# EAGLE library part DIPSWITCH_4P (library CASE-Switches)
Standard 4 position DIP-Switch Description: Standard 4 position DIP-Switch in DIP/SIP and SMD package. Links: TE 1825360-1 <https://www.te.com/commerce/DocumentDelivery/DDEController?Action=showdoc&DocId=Customer+Drawing%7F1825360%7FB4%7Fpdf%7FEnglish%7FENG_CD_1825360_B4.pdf%7F1825360-1> TE EDS04SGRNTU04Q <http://www.farnell.com/datasheets/2367232.pdf?_ga=2.78644432.510093211.1546607516-411290609.1543318711>
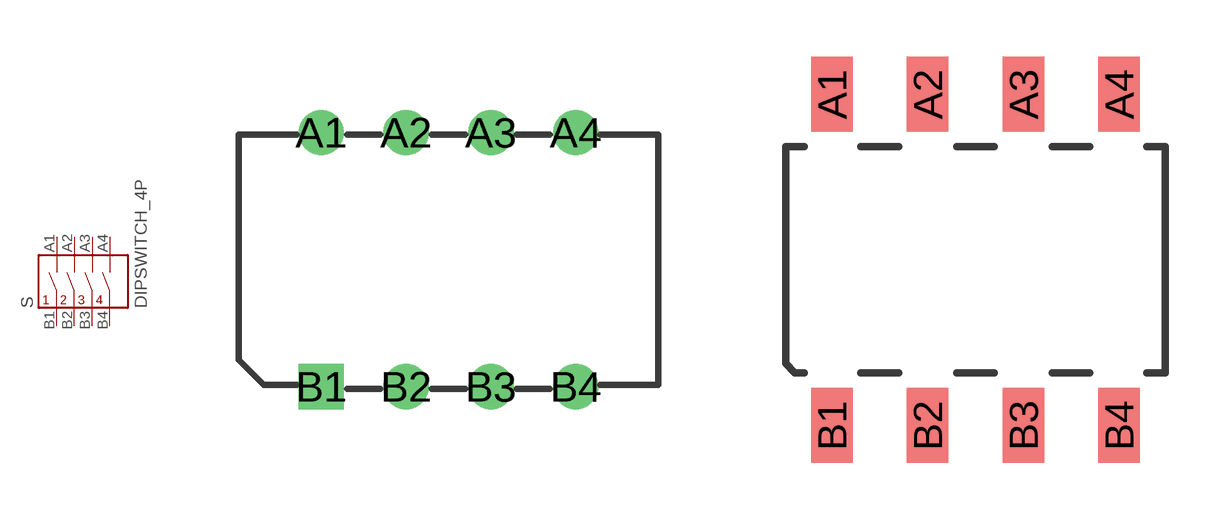
[diagram p0: symbol with the pads of DIPSWITCH_4P; footprints DIPSWITCH_4P, DIPSWITCH_4P_SMD]

Designator prefix S

## DIPSWITCH_4P1825360-3  [DIPSWITCH_4P]
A1  A1
A2  A2
A3  A3
A4  A4
B1  B1
B2  B2
B3  B3
B4  B4

## DIPSWITCH_4PEDS04SGRNTU04Q  [DIPSWITCH_4P_SMD]
Pads as for DIPSWITCH_4P

## Footprint DIPSWITCH_4P (pad centres in mm)
Links: Datasheet <https://www.te.com/commerce/DocumentDelivery/DDEController?Action=showdoc&DocId=Customer+Drawing%7F1825360%7FB4%7Fpdf%7FEnglish%7FENG_CD_1825360_B4.pdf%7F1825360-1>
drill 0.85: A1 -3.81,3.81; A2 -1.27,3.81; A3 1.27,3.81; A4 3.81,3.81; B2 -1.27,-3.81; B3 1.27,-3.81; B4 3.81,-3.81
drill 0.85 pad 1.25 square: B1 -3.81,-3.81

## Footprint DIPSWITCH_4P_SMD (pad centres in mm)
Links: Datasheet <http://www.farnell.com/datasheets/2367232.pdf?_ga=2.78644432.510093211.1546607516-411290609.1543318711>
smd 1.1 x 2: A1 -3.81,4.4; A2 -1.27,4.4; A3 1.27,4.4; A4 3.81,4.4; B1 -3.81,-4.4; B2 -1.27,-4.4; B3 1.27,-4.4; B4 3.81,-4.4